# EAGLE library part TPD4E004-SOP-6 (library Ferrit IC TPD4E004)
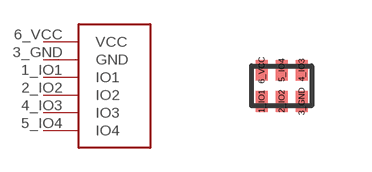
[diagram p0: symbol with the pads of SON-6; footprint SON-6]

Designator prefix -

## TPD4E004-SOP-6  [SON-6]
1_IO1  IO1
2_IO2  IO2
3_GND  GND
4_IO3  IO3
5_IO4  IO4
6_VCC  VCC

## Footprint SON-6 (pad centres in mm)
smd 0.3 x 0.52: 1_IO1 -0.5,-0.39; 2_IO2 0,-0.39; 3_GND 0.5,-0.39; 4_IO3 0.5,0.39; 5_IO4 0,0.39; 6_VCC -0.5,0.39